# Altium footprint library project_footprints.PcbLib: 26 footprints (part 2 of 2)
Each footprint in its own frame and in the unit in brackets; x right, y up, seen from the top. Pads: shape width x height; smd on the part's side, far side on the other; paste and mask are expansions set on the pad; w line width, h text height; cw(c..) or ccw(c..) is an arc to the next point about the centre after c.
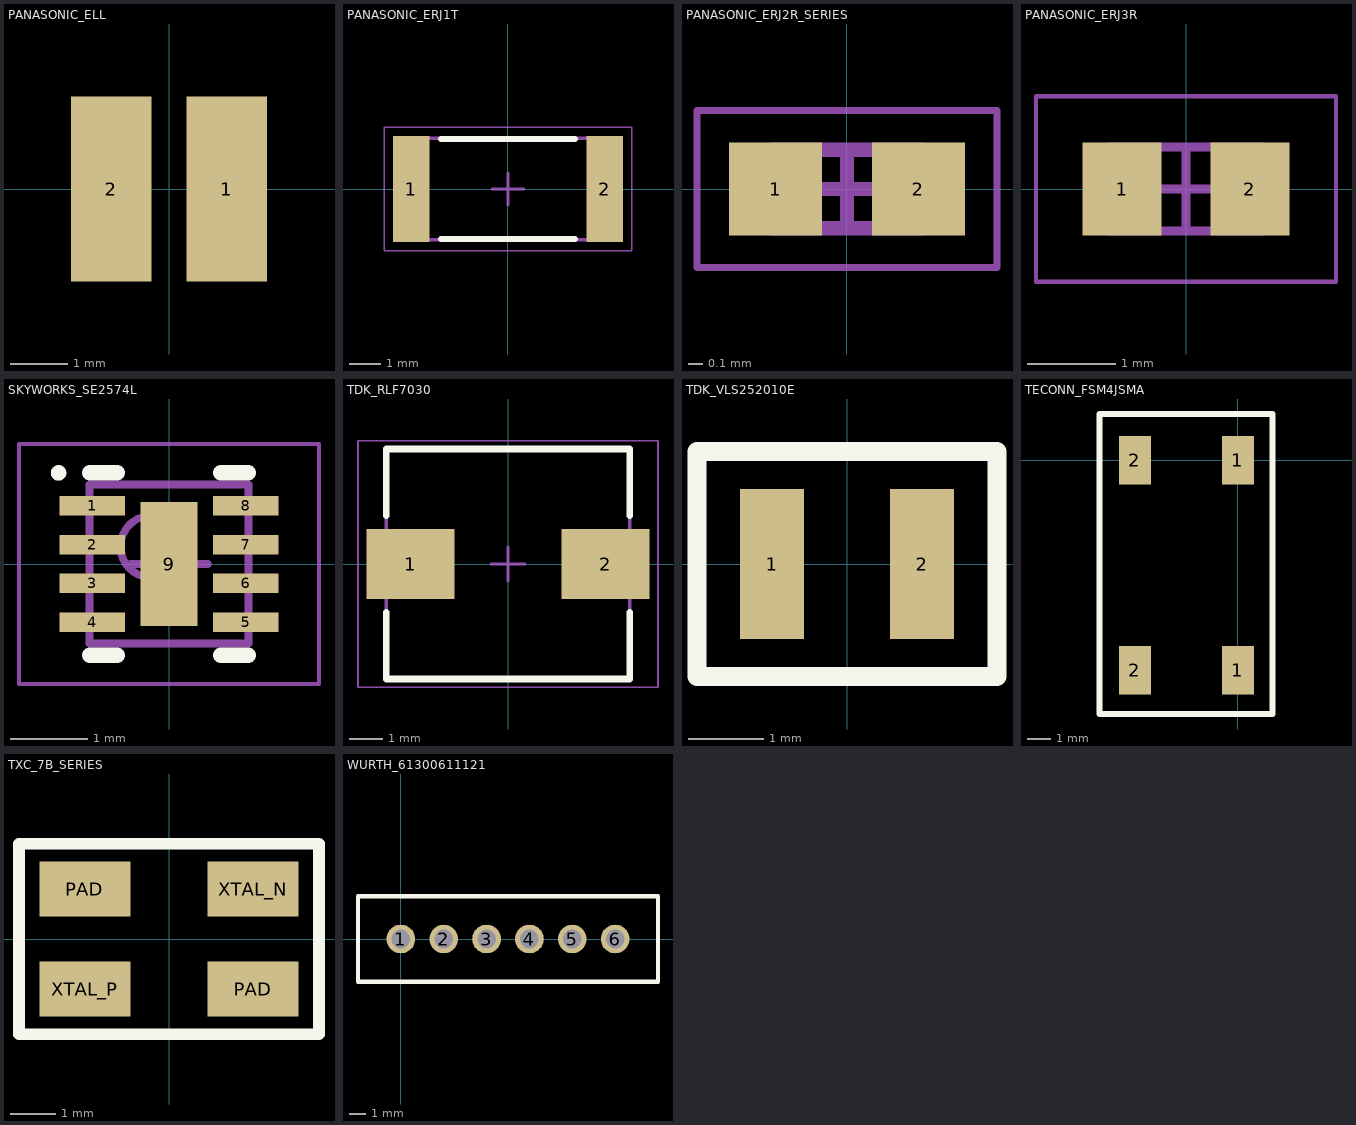
[diagram p1: the footprints below, top view; thin cyan lines are the x and y axes]

## PANASONIC_ELL [mm]
height 1.5
pads (2):
  rect 1.4x3.2 smd paste+0.1: 1(1,0) 2(-1,0)

## PANASONIC_ERJ1T [mm] "RES SMD 2512"
height 0.6
pads (2):
  rect 1.15x3.35 smd: 1(-3.05,0) 2(3.05,0)
Top Overlay:
  lines w0.2: -2.1,-1.575 2.1,-1.575 ; -2.1,1.575 2.1,1.575
Mechanical 13:
  lines w0.1: -3.2,-1.6 -3.2,1.6 3.2,1.6 3.2,-1.6 -3.2,-1.6
Mechanical 15:
  lines w0.05: -3.9,-1.95 -3.9,1.95 3.9,1.95 3.9,-1.95 -3.9,-1.95
  lines w0.1: -0.5,0 0.5,0 ; 0,-0.5 0,0.5
3D body: height 0.6, standoff 0, extent -2.55,-1.6 2.55,1.6
3D body: height 0.6, standoff 0, extent -3.2,-1.6 -2.55,1.6
3D body: height 0.6, standoff 0, extent 2.55,-1.6 3.2,1.6

## PANASONIC_ERJ2R_SERIES [mm] "0402 Resistor"
height 0.4
pads (2):
  rect 0.65x0.65 smd: 1(-0.5,0) 2(0.5,0)
Mechanical 13:
  lines w0.1: -0.525,-0.275 -0.525,0.275 0.525,0.275 0.525,-0.275 -0.525,-0.275
Mechanical 15:
  lines w0.05: -1.05,-0.55 -1.05,0.55 1.05,0.55 1.05,-0.55 -1.05,-0.55
  lines w0.1: -0.275,0 0.275,0 ; 0,-0.275 0,0.275
3D body: height 0.4, standoff 0, extent -0.325,-0.275 0.325,0.275
3D body: height 0.4, standoff 0, extent -0.525,-0.275 -0.325,0.275
3D body: height 0.4, standoff 0, extent 0.325,-0.275 0.525,0.275

## PANASONIC_ERJ3R [mm] "Chip Resistor, 0603"
height 0.55
pads (2):
  rect 0.9x1.05 smd: 1(-0.725,0) 2(0.725,0)
Mechanical 13:
  lines w0.1: -0.875,-0.475 0.875,-0.475 0.875,0.475 -0.875,0.475 -0.875,-0.475
Mechanical 15:
  lines w0.05: -1.7,-1.05 1.7,-1.05 1.7,1.05 -1.7,1.05 -1.7,-1.05
  lines w0.1: -0.475,0 0.475,0 ; 0,-0.475 0,0.475
3D body: height 0.55, standoff 0, extent 0.575,-0.475 0.875,0.475
3D body: height 0.55, standoff 0, extent -0.875,-0.475 -0.575,0.475
3D body: height 0.55, standoff 0, extent -0.575,-0.475 0.575,0.475

## SKYWORKS_SE2574L [mm] "RF Transciver"
height 2.65
pads (9):
  rect 0.85x0.25 smd: 1(-0.99,0.75) 2(-0.99,0.25) 3(-0.99,-0.25) 4(-0.99,-0.75) 5(0.99,-0.75) 6(0.99,-0.25) 7(0.99,0.25) 8(0.99,0.75)
  rect 0.73x1.6 smd: 9(0,0)
Top Overlay:
  circle w0.1: c-1.425,1.175 r0.05
  lines w0.2: -1.025,-1.175 -0.665,-1.175 ; -1.025,1.175 -0.665,1.175 ; 0.665,-1.175 1.025,-1.175 ; 0.665,1.175 1.025,1.175
Mechanical 13:
  circle w0.1: c-0.225,0.225 r0.4
  lines w0.1: -1.025,-1.025 -1.025,1.025 1.025,1.025 1.025,-1.025 -1.025,-1.025
Mechanical 15:
  lines w0.05: -1.935,-1.55 -1.935,1.55 1.935,1.55 1.935,-1.55 -1.935,-1.55
  lines w0.1: -0.5,0 0.5,0 ; 0,-0.5 0,0.5
3D body: height 2.65, standoff 0.1, extent -1.025,-1.025 1.025,1.025

## TDK_RLF7030 [mm] "Precision Wire Wound Inductor, 2-Leads, Body 7.25x6.80mm"
height 3.2
pads (2):
  rect 2.65x2.1 smd: 1(-2.925,0) 2(2.925,0)
Top Overlay:
  lines w0.2: -3.65,-1.45 -3.65,-3.45 3.65,-3.45 3.65,-1.45 ; -3.65,1.45 -3.65,3.45 3.65,3.45 3.65,1.45
Mechanical 13:
  lines w0.1: -3.65,-3.45 -3.65,3.45 3.65,3.45 3.65,-3.45 -3.65,-3.45
Mechanical 15:
  lines w0.05: -4.5,-3.7 -4.5,3.7 4.5,3.7 4.5,-3.7 -4.5,-3.7
  lines w0.1: -0.5,0 0.5,0 ; 0,-0.5 0,0.5
3D body: height 3.2, standoff 0, extent -3.65,-3.45 3.65,3.45

## TDK_VLS252010E [mm] "Wireround, Inductor"
height 1
pads (2):
  rect 0.85x2 smd: 1(-1,0) 2(1,0)
Top Overlay:
  lines w0.254: -2,-1.5 2,-1.5 2,1.5 -2,1.5 -2,-1.5
3D body: height 1, standoff 0, extent -1.5,-1 1.5,1

## TECONN_FSM4JSMA [mm] "Tactile Switch, Surface Mount"
height 5
pads (4):
  rect 1.4x2.1 smd: 1(0,-9.1) 1(0,0) 2(-4.46,-9.1) 2(-4.46,0)
Top Overlay:
  lines w0.254: -6,-11 -6,2 1.5,2 1.5,-11 -6,-11

## TXC_7B_SERIES [mm] "Crystal"
height 1.05
pads (4):
  rect 2x1.2 smd: PAD(-1.85,1.1) PAD(1.85,-1.1) XTAL_N(1.85,1.1) XTAL_P(-1.85,-1.1)
Top Overlay:
  lines w0.254: -3.3,-2.1 3.3,-2.1 3.3,2.1 -3.3,2.1 -3.3,-2.1
3D body: height 0.9, standoff 0, extent -2.6,-1.7 2.6,1.7

## WURTH_61300611121 [mm] "6 position, header"
pads (6):
  round 1.7 hole 1.1: 1(0,0) 2(2.54,0) 3(5.08,0) 4(7.62,0) 5(10.16,0) 6(12.7,0)
Top Overlay:
  lines w0.254: -2.54,-2.54 -2.54,2.54 15.24,2.54 15.24,-2.54 -2.54,-2.54